# Altium schematic symbol library 0805 560R.Schlib: 1 symbol
Pins are listed as number, name and electrical type; pins without a type are passive.

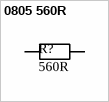
[diagram p0: symbol 0805 560R]

## 0805 560R
designator R?, comment value 560R  (hidden comment: Resistor)
560Ω ±1% 0.125W ±100ppm/℃ 0805 Chip Resistor - Surface Mount RoHS; LCSC Part #: C28636
footprint RES 0805_2012 (Chip Resistor, 2-Leads, Body 2.00x1.25mm, IPC Medium Density)
pins: 1, 2